# EAGLE library part TCA9534 (library parts)
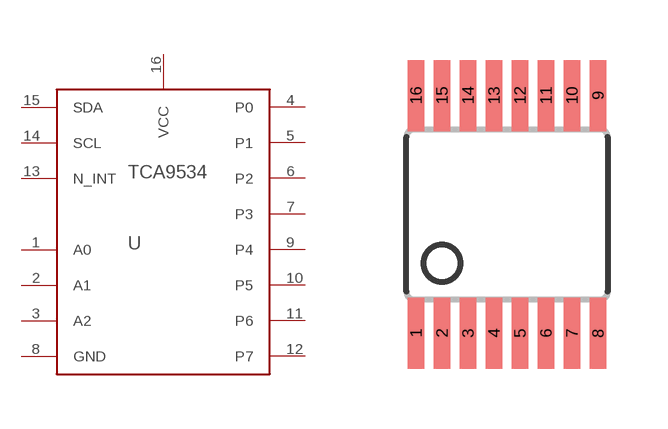
[diagram p13: symbol with the pads of TSSOP16L; footprint TSSOP16L]

Designator prefix -

## TCA9534  [TSSOP16L]
1  A0
2  A1
3  A2
4  P0
5  P1
6  P2
7  P3
8  GND
9  P4
10  P5
11  P6
12  P7
13  N_INT
14  SCL
15  SDA
16  VCC

## Footprint TSSOP16L (pad centres in mm)
MOLDED TSSOP JEDEC, 5 x 4.4 x 9.9 mm Body 16 LD, 0.65mm Pitch Source: http://www.national.com/packaging/mkt/mtc16.pdf
smd 0.42 x 1.78: 1 -2.275,-2.97; 2 -1.625,-2.97; 3 -0.975,-2.97; 4 -0.325,-2.97; 5 0.325,-2.97; 6 0.975,-2.97; 7 1.625,-2.97; 8 2.275,-2.97; 9 2.275,2.97; 10 1.625,2.97; 11 0.975,2.97; 12 0.325,2.97; 13 -0.325,2.97; 14 -0.975,2.97; 15 -1.625,2.97; 16 -2.275,2.97